# Altium integrated library Analog Devices Operational Amplifiers.IntLib: 2102 symbols (part 58 of 70)
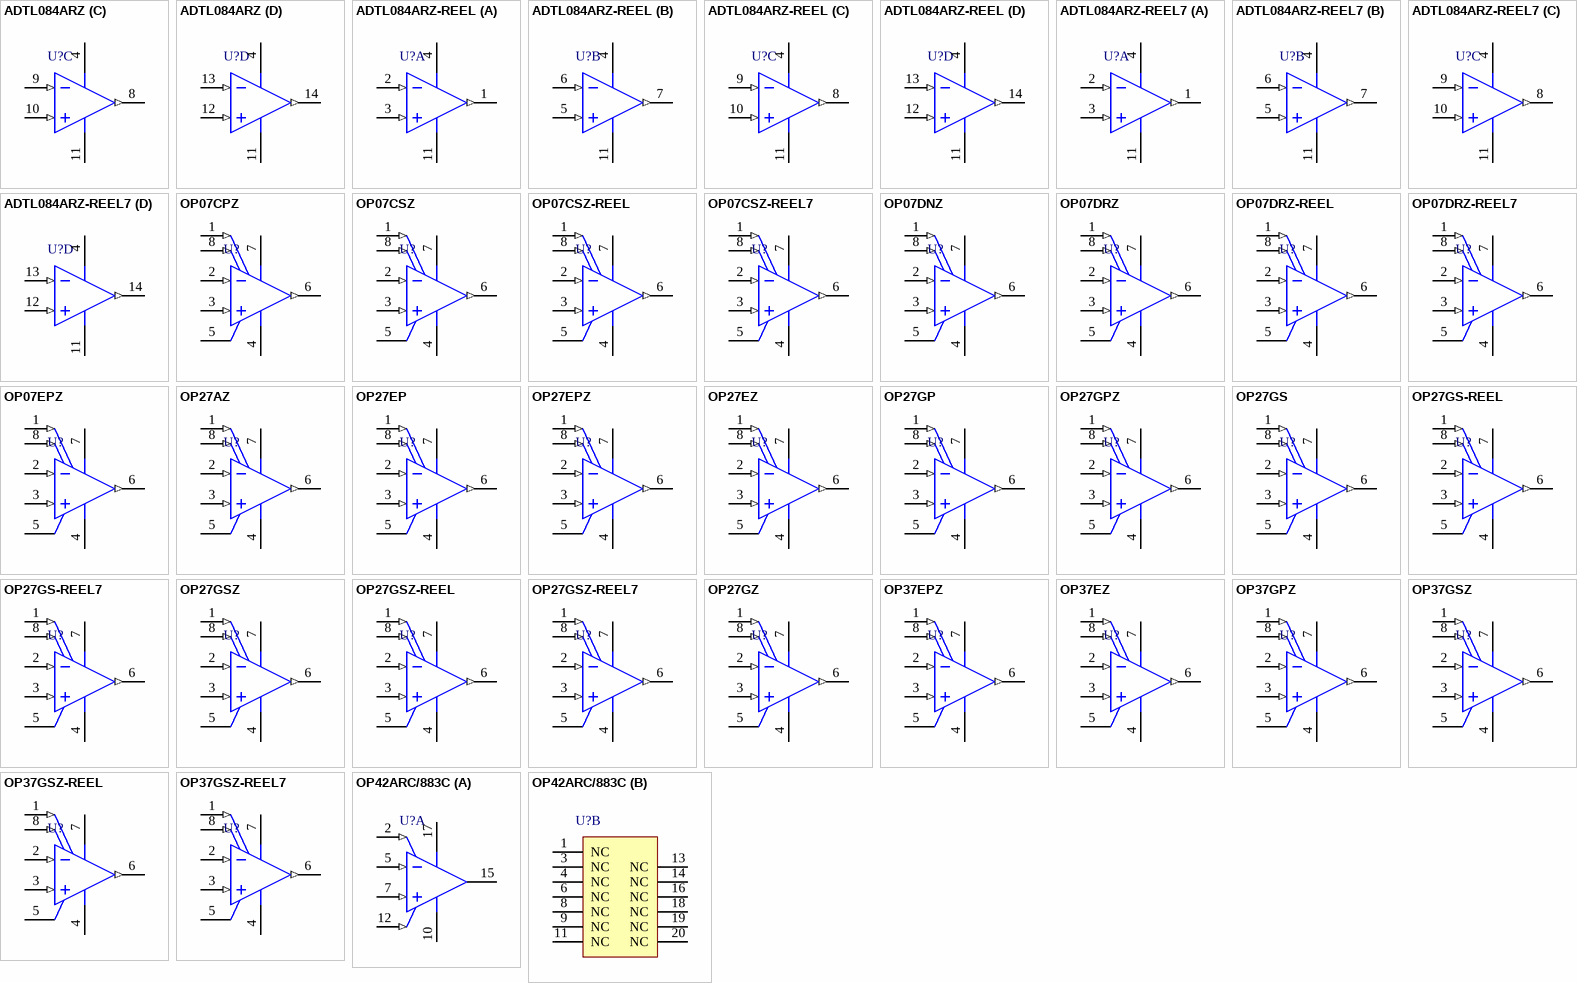
[diagram p171: symbols ADTL084ARZ to OP42ARC/883C]

## OP27EZ
designator U?
Single Channel Low Noise Operational Amplifier, 8 MHz BW, 2.8 V/us SR, Industrial, 8-pin DIP (Q-8), Tube; Generic Part Number: OP27; Manufacturer: Analog Devices; PartNumber: OP27EZ; Amplifiers Per Package: 1; Input Bias Current: 15nA; Input Offset Voltage: 30uV; Iq/Amp: 5.7mA; Small Signal Bandwidth: 8MHz; V Span Max: 44V; V Span Min: 8V; DatasheetVersion: Rev. F; PackageReference: Q-8; PackageDescription: 8-Pin Ceramic Dual In-Line Package, Row spacing 7.62 mm, Pitch 2.54 mm; Supplier 1: Digi-Key; Supplier Part Number 1: OP27EZ-ND; Supplier 2: Newark; Supplier Part Number 2: 05F8608; Packing: Tube; Slew Rate: 2.8V/us; Mounting Technology: Through Hole; ComponentLink1Description: Manufacturer URL; ComponentLink1URL: http://www.analog.com/en/index.html; ComponentLink2Description: Datasheet; ComponentLink2URL: http://www.analog.com/static/imported-files/data_sheets/OP27.pdf; ComponentLink3Description: Package Specification; ComponentLink3URL: http://www.analog.com/static/imported-files/packages/3925655241313314758Q_8.pdf
footprint ADI-Q-8 (DIP, 8-Leads, Body 10.29x6.73mm, Pitch 2.54mm)
pins: 1 VOS TRIM (in), 2 -IN (in), 3 +IN (in), 4 -V (power), 5 NC, 6 OUT (out), 7 +V (power), 8 VOS TRIM (in)

## OP27GP
designator U?
Single Channel Low Noise Operational Amplifier, 8 MHz BW, 2.8 V/us SR, Industrial, 8-pin DIP (N-8), Tube; Generic Part Number: OP27; Manufacturer: Analog Devices; PartNumber: OP27GP; Amplifiers Per Package: 1; Input Bias Current: 15nA; Input Offset Voltage: 30uV; Iq/Amp: 5.7mA; Small Signal Bandwidth: 8MHz; V Span Max: 44V; V Span Min: 8V; DatasheetVersion: Rev. F; PackageVersion: 070606-A; PackageReference: N-8; PackageDescription: 8-Pin Plastic Dual In-Line Package, Row spacing 7.62 mm, Pitch 2.54 mm; Supplier 1: Digi-Key; Supplier Part Number 1: OP27GP-ND; Packing: Tube; Slew Rate: 2.8V/us; Mounting Technology: Through Hole; Code_JEDEC: MS-001; ComponentLink1Description: Manufacturer URL; ComponentLink1URL: http://www.analog.com/en/index.html; ComponentLink2Description: Datasheet; ComponentLink2URL: http://www.analog.com/static/imported-files/data_sheets/OP27.pdf; ComponentLink3Description: Package Specification; ComponentLink3URL: http:/www.analog.com/static/imported-files/packages/PKG_PDF/PDIP(N)/N_8.pdf
footprint ADI-N-8 (DIP, 8-Leads, Body 9.59x6.6mm, Pitch 2.54mm)
pins: 1 VOS TRIM (in), 2 -IN (in), 3 +IN (in), 4 V- (power), 5 NC, 6 OUT (out), 7 V+ (power), 8 VOS TRIM (in)

## OP27GPZ
designator U?
Single Channel Low Noise Operational Amplifier, 8 MHz BW, 2.8 V/us SR, Industrial, 8-pin DIP (N-8), Tube; Generic Part Number: OP27; Manufacturer: Analog Devices; PartNumber: OP27GPZ; Amplifiers Per Package: 1; Input Bias Current: 15nA; Input Offset Voltage: 30uV; Iq/Amp: 5.7mA; Small Signal Bandwidth: 8MHz; V Span Max: 44V; V Span Min: 8V; DatasheetVersion: Rev. F; PackageVersion: 070606-A; PackageReference: N-8; PackageDescription: 8-Pin Plastic Dual In-Line Package, Row spacing 7.62 mm, Pitch 2.54 mm; Supplier 1: Digi-Key; Supplier Part Number 1: OP27GPZ-ND; Supplier 2: Farnell; Supplier Part Number 2: 1523887; Supplier 3: Farnell; Supplier Part Number 3: 9604626; Supplier 4: Newark; Supplier Part Number 4: 59K8828; Packing: Tube; Slew Rate: 2.8V/us; Mounting Technology: Through Hole; Code_JEDEC: MS-001; ComponentLink1Description: Manufacturer URL; ComponentLink1URL: http://www.analog.com/en/index.html; ComponentLink2Description: Datasheet; ComponentLink2URL: http://www.analog.com/static/imported-files/data_sheets/OP27.pdf; ComponentLink3Description: Package Specification; ComponentLink3URL: http:/www.analog.com/static/imported-files/packages/PKG_PDF/PDIP(N)/N_8.pdf
footprint ADI-N-8 (DIP, 8-Leads, Body 9.59x6.6mm, Pitch 2.54mm)
pins: 1 VOS TRIM (in), 2 -IN (in), 3 +IN (in), 4 V- (power), 5 NC, 6 OUT (out), 7 V+ (power), 8 VOS TRIM (in)

## OP27GS
designator U?
Single Channel Low Noise Operational Amplifier, 8 MHz BW, 2.8 V/us SR, Industrial, 8-pin SOIC (R-8), Tube; Generic Part Number: OP27; Manufacturer: Analog Devices; PartNumber: OP27GS; Amplifiers Per Package: 1; Input Bias Current: 15nA; Input Offset Voltage: 30uV; Iq/Amp: 5.7mA; Small Signal Bandwidth: 8MHz; V Span Max: 44V; V Span Min: 8V; DatasheetVersion: Rev. F; PackageVersion: 060506-A; PackageReference: R-8; PackageDescription: 8-Pin Standard Small Outline Package, Body 3.9 x 4.9 mm, Pitch 1.27 mm; Supplier 1: Digi-Key; Supplier Part Number 1: OP27GS-ND; Packing: Tube; Slew Rate: 2.8V/us; Mounting Technology: Surface Mount; Code_JEDEC: MS-012-AA; ComponentLink1Description: Manufacturer URL; ComponentLink1URL: http://www.analog.com/en/index.html; ComponentLink2Description: Datasheet; ComponentLink2URL: http://www.analog.com/static/imported-files/data_sheets/OP27.pdf; ComponentLink3Description: Package Specification; ComponentLink3URL: http://www.analog.com/static/imported-files/packages/PKG_PDF/SOIC_Narrow%20(R)/R_8.pdf
footprint ADI-R-8_N (SOIC, 8-Leads, Body 4.9x3.9mm, Pitch 1.27mm, IPC Medium Density)
footprint ADI-R-8_L (SOIC, 8-Leads, Body 4.9x3.9mm, Pitch 1.27mm, IPC High Density)
footprint ADI-R-8_M (SOIC, 8-Leads, Body 4.9x3.9mm, Pitch 1.27mm, IPC Low Density)
pins: 1 VOS TRIM (in), 2 -IN (in), 3 +IN (in), 4 V- (power), 5 NC, 6 OUT (out), 7 V+ (power), 8 VOS TRIM (in)

## OP27GS-REEL
designator U?
Single Channel Low Noise Operational Amplifier, 8 MHz BW, 2.8 V/us SR, Industrial, 8-pin SOIC (R-8), Reel; Generic Part Number: OP27; Manufacturer: Analog Devices; PartNumber: OP27GS-REEL; Amplifiers Per Package: 1; Input Bias Current: 15nA; Input Offset Voltage: 30uV; Iq/Amp: 5.7mA; Small Signal Bandwidth: 8MHz; V Span Max: 44V; V Span Min: 8V; DatasheetVersion: Rev. F; PackageVersion: 060506-A; PackageReference: R-8; PackageDescription: 8-Pin Standard Small Outline Package, Body 3.9 x 4.9 mm, Pitch 1.27 mm; Supplier 1: Digi-Key; Supplier Part Number 1: OP27GS-REEL-ND; Supplier 2: Newark; Supplier Part Number 2: 09B8393; Packing: Reel; Slew Rate: 2.8V/us; Mounting Technology: Surface Mount; Code_JEDEC: MS-012-AA; ComponentLink1Description: Manufacturer URL; ComponentLink1URL: http://www.analog.com/en/index.html; ComponentLink2Description: Datasheet; ComponentLink2URL: http://www.analog.com/static/imported-files/data_sheets/OP27.pdf; ComponentLink3Description: Package Specification; ComponentLink3URL: http://www.analog.com/static/imported-files/packages/PKG_PDF/SOIC_Narrow%20(R)/R_8.pdf
footprint ADI-R-8_N (SOIC, 8-Leads, Body 4.9x3.9mm, Pitch 1.27mm, IPC Medium Density)
footprint ADI-R-8_L (SOIC, 8-Leads, Body 4.9x3.9mm, Pitch 1.27mm, IPC High Density)
footprint ADI-R-8_M (SOIC, 8-Leads, Body 4.9x3.9mm, Pitch 1.27mm, IPC Low Density)
pins: 1 VOS TRIM (in), 2 -IN (in), 3 +IN (in), 4 V- (power), 5 NC, 6 OUT (out), 7 V+ (power), 8 VOS TRIM (in)

## OP27GS-REEL7
designator U?
Single Channel Low Noise Operational Amplifier, 8 MHz BW, 2.8 V/us SR, Industrial, 8-pin SOIC (R-8), Reel; Generic Part Number: OP27; Manufacturer: Analog Devices; PartNumber: OP27GS-REEL7; Amplifiers Per Package: 1; Input Bias Current: 15nA; Input Offset Voltage: 30uV; Iq/Amp: 5.7mA; Small Signal Bandwidth: 8MHz; V Span Max: 44V; V Span Min: 8V; DatasheetVersion: Rev. F; PackageVersion: 060506-A; PackageReference: R-8; PackageDescription: 8-Pin Standard Small Outline Package, Body 3.9 x 4.9 mm, Pitch 1.27 mm; Supplier 1: Digi-Key; Supplier Part Number 1: OP27GS-REEL7TR-ND; Supplier 2: Newark; Supplier Part Number 2: 09B8394; Packing: Reel; Slew Rate: 2.8V/us; Mounting Technology: Surface Mount; Code_JEDEC: MS-012-AA; ComponentLink1Description: Manufacturer URL; ComponentLink1URL: http://www.analog.com/en/index.html; ComponentLink2Description: Datasheet; ComponentLink2URL: http://www.analog.com/static/imported-files/data_sheets/OP27.pdf; ComponentLink3Description: Package Specification; ComponentLink3URL: http://www.analog.com/static/imported-files/packages/PKG_PDF/SOIC_Narrow%20(R)/R_8.pdf
footprint ADI-R-8_N (SOIC, 8-Leads, Body 4.9x3.9mm, Pitch 1.27mm, IPC Medium Density)
footprint ADI-R-8_L (SOIC, 8-Leads, Body 4.9x3.9mm, Pitch 1.27mm, IPC High Density)
footprint ADI-R-8_M (SOIC, 8-Leads, Body 4.9x3.9mm, Pitch 1.27mm, IPC Low Density)
pins: 1 VOS TRIM (in), 2 -IN (in), 3 +IN (in), 4 V- (power), 5 NC, 6 OUT (out), 7 V+ (power), 8 VOS TRIM (in)

## OP27GSZ
designator U?
Single Channel Low Noise Operational Amplifier, 8 MHz BW, 2.8 V/us SR, Industrial, 8-pin SOIC (R-8), Tube; Generic Part Number: OP27; Manufacturer: Analog Devices; PartNumber: OP27GSZ; Amplifiers Per Package: 1; Input Bias Current: 15nA; Input Offset Voltage: 30uV; Iq/Amp: 5.7mA; Small Signal Bandwidth: 8MHz; V Span Max: 44V; V Span Min: 8V; DatasheetVersion: Rev. F; PackageVersion: 060506-A; PackageReference: R-8; PackageDescription: 8-Pin Standard Small Outline Package, Body 3.9 x 4.9 mm, Pitch 1.27 mm; Supplier 1: Digi-Key; Supplier Part Number 1: OP27GSZ-ND; Supplier 2: Farnell; Supplier Part Number 2: 9426124; Supplier 3: Newark; Supplier Part Number 3: 59K8829; Packing: Tube; Slew Rate: 2.8V/us; Mounting Technology: Surface Mount; Code_JEDEC: MS-012-AA; ComponentLink1Description: Manufacturer URL; ComponentLink1URL: http://www.analog.com/en/index.html; ComponentLink2Description: Datasheet; ComponentLink2URL: http://www.analog.com/static/imported-files/data_sheets/OP27.pdf; ComponentLink3Description: Package Specification; ComponentLink3URL: http://www.analog.com/static/imported-files/packages/PKG_PDF/SOIC_Narrow%20(R)/R_8.pdf
footprint ADI-R-8_N (SOIC, 8-Leads, Body 4.9x3.9mm, Pitch 1.27mm, IPC Medium Density)
footprint ADI-R-8_L (SOIC, 8-Leads, Body 4.9x3.9mm, Pitch 1.27mm, IPC High Density)
footprint ADI-R-8_M (SOIC, 8-Leads, Body 4.9x3.9mm, Pitch 1.27mm, IPC Low Density)
pins: 1 VOS TRIM (in), 2 -IN (in), 3 +IN (in), 4 V- (power), 5 NC, 6 OUT (out), 7 V+ (power), 8 VOS TRIM (in)

## OP27GSZ-REEL
designator U?
Single Channel Low Noise Operational Amplifier, 8 MHz BW, 2.8 V/us SR, Industrial, 8-pin SOIC (R-8), Reel; Generic Part Number: OP27; Manufacturer: Analog Devices; PartNumber: OP27GSZ-REEL; Amplifiers Per Package: 1; Input Bias Current: 15nA; Input Offset Voltage: 30uV; Iq/Amp: 5.7mA; Small Signal Bandwidth: 8MHz; V Span Max: 44V; V Span Min: 8V; DatasheetVersion: Rev. F; PackageVersion: 060506-A; PackageReference: R-8; PackageDescription: 8-Pin Standard Small Outline Package, Body 3.9 x 4.9 mm, Pitch 1.27 mm; Supplier 1: Digi-Key; Supplier Part Number 1: OP27GSZ-REEL-ND; Supplier 2: Newark; Supplier Part Number 2: 59K8830; Packing: Reel; Slew Rate: 2.8V/us; Mounting Technology: Surface Mount; Code_JEDEC: MS-012-AA; ComponentLink1Description: Manufacturer URL; ComponentLink1URL: http://www.analog.com/en/index.html; ComponentLink2Description: Datasheet; ComponentLink2URL: http://www.analog.com/static/imported-files/data_sheets/OP27.pdf; ComponentLink3Description: Package Specification; ComponentLink3URL: http://www.analog.com/static/imported-files/packages/PKG_PDF/SOIC_Narrow%20(R)/R_8.pdf
footprint ADI-R-8_N (SOIC, 8-Leads, Body 4.9x3.9mm, Pitch 1.27mm, IPC Medium Density)
footprint ADI-R-8_L (SOIC, 8-Leads, Body 4.9x3.9mm, Pitch 1.27mm, IPC High Density)
footprint ADI-R-8_M (SOIC, 8-Leads, Body 4.9x3.9mm, Pitch 1.27mm, IPC Low Density)
pins: 1 VOS TRIM (in), 2 -IN (in), 3 +IN (in), 4 V- (power), 5 NC, 6 OUT (out), 7 V+ (power), 8 VOS TRIM (in)

## OP27GSZ-REEL7
designator U?
Single Channel Low Noise Operational Amplifier, 8 MHz BW, 2.8 V/us SR, Industrial, 8-pin SOIC (R-8), Reel; Generic Part Number: OP27; Manufacturer: Analog Devices; PartNumber: OP27GSZ-REEL7; Amplifiers Per Package: 1; Input Bias Current: 15nA; Input Offset Voltage: 30uV; Iq/Amp: 5.7mA; Small Signal Bandwidth: 8MHz; V Span Max: 44V; V Span Min: 8V; DatasheetVersion: Rev. F; PackageVersion: 060506-A; PackageReference: R-8; PackageDescription: 8-Pin Standard Small Outline Package, Body 3.9 x 4.9 mm, Pitch 1.27 mm; Supplier 1: Digi-Key; Supplier Part Number 1: OP27GSZ-REEL7TR-ND; Supplier 2: Digi-Key; Supplier Part Number 2: OP27GSZ-REEL7CT-ND; Supplier 3: Digi-Key; Supplier Part Number 3: OP27GSZ-REEL7DKR-ND; Supplier 4: Newark; Supplier Part Number 4: 59K8831; Packing: Reel; Slew Rate: 2.8V/us; Mounting Technology: Surface Mount; Code_JEDEC: MS-012-AA; ComponentLink1Description: Manufacturer URL; ComponentLink1URL: http://www.analog.com/en/index.html; ComponentLink2Description: Datasheet; ComponentLink2URL: http://www.analog.com/static/imported-files/data_sheets/OP27.pdf; ComponentLink3Description: Package Specification; ComponentLink3URL: http://www.analog.com/static/imported-files/packages/PKG_PDF/SOIC_Narrow%20(R)/R_8.pdf
footprint ADI-R-8_N (SOIC, 8-Leads, Body 4.9x3.9mm, Pitch 1.27mm, IPC Medium Density)
footprint ADI-R-8_L (SOIC, 8-Leads, Body 4.9x3.9mm, Pitch 1.27mm, IPC High Density)
footprint ADI-R-8_M (SOIC, 8-Leads, Body 4.9x3.9mm, Pitch 1.27mm, IPC Low Density)
pins: 1 VOS TRIM (in), 2 -IN (in), 3 +IN (in), 4 V- (power), 5 NC, 6 OUT (out), 7 V+ (power), 8 VOS TRIM (in)

## OP27GZ
designator U?
Single Channel Low Noise Operational Amplifier, 8 MHz BW, 2.8 V/us SR, Industrial, 8-pin DIP (Q-8), Tube; Generic Part Number: OP27; Manufacturer: Analog Devices; PartNumber: OP27GZ; Amplifiers Per Package: 1; Input Bias Current: 15nA; Input Offset Voltage: 30uV; Iq/Amp: 5.7mA; Small Signal Bandwidth: 8MHz; V Span Max: 44V; V Span Min: 8V; DatasheetVersion: Rev. F; PackageReference: Q-8; PackageDescription: 8-Pin Ceramic Dual In-Line Package, Row spacing 7.62 mm, Pitch 2.54 mm; Supplier 1: Digi-Key; Supplier Part Number 1: OP27GZ-ND; Supplier 2: Newark; Supplier Part Number 2: 05F8616; Packing: Tube; Slew Rate: 2.8V/us; Mounting Technology: Through Hole; ComponentLink1Description: Manufacturer URL; ComponentLink1URL: http://www.analog.com/en/index.html; ComponentLink2Description: Datasheet; ComponentLink2URL: http://www.analog.com/static/imported-files/data_sheets/OP27.pdf; ComponentLink3Description: Package Specification; ComponentLink3URL: http://www.analog.com/static/imported-files/packages/3925655241313314758Q_8.pdf
footprint ADI-Q-8 (DIP, 8-Leads, Body 10.29x6.73mm, Pitch 2.54mm)
pins: 1 VOS TRIM (in), 2 -IN (in), 3 +IN (in), 4 -V (power), 5 NC, 6 OUT (out), 7 +V (power), 8 VOS TRIM (in)

## OP37EPZ
designator U?
Single Channel Low Noise Operational Amplifier, 63 MHz BW, 17 V/us SR, Industrial, 8-pin DIP (N-8), Tube; Generic Part Number: OP37; Manufacturer: Analog Devices; PartNumber: OP37EPZ; Amplifiers Per Package: 1; Input Bias Current: 10nA; Input Offset Voltage: 10uV; Iq/Amp: 5.67mA; Slew Rate: 17V/us; Small Signal Bandwidth: 12MHz; V Span Max: 44V; V Span Min: 8V; DatasheetVersion: Rev. B; PackageVersion: 070606-A; PackageReference: N-8; PackageDescription: 8-Pin Plastic Dual In-Line Package, Row spacing 7.62 mm, Pitch 2.54 mm; Supplier 1: Digi-Key; Supplier Part Number 1: OP37EPZ-ND; Supplier 2: Farnell; Supplier Part Number 2: 1438688; Supplier 3: Newark; Supplier Part Number 3: 59K8884; Packing: Tube; Mounting Technology: Through Hole; Code_JEDEC: MS-001; ComponentLink1Description: Manufacturer URL; ComponentLink1URL: http://www.analog.com/en/index.html; ComponentLink2Description: Datasheet; ComponentLink2URL: http://www.analog.com/static/imported-files/data_sheets/OP37.pdf; ComponentLink3Description: Package Specification; ComponentLink3URL: http:/www.analog.com/static/imported-files/packages/PKG_PDF/PDIP(N)/N_8.pdf
footprint ADI-N-8 (DIP, 8-Leads, Body 9.59x6.6mm, Pitch 2.54mm)
pins: 1 VOS TRIM (in), 2 -IN (in), 3 +IN (in), 4 V- (power), 5 NC, 6 OUT (out), 7 V+ (power), 8 VOS TRIM (in)

## OP37EZ
designator U?
Single Channel Low Noise Operational Amplifier, 63 MHz BW, 17 V/us SR, Industrial, 8-pin DIP (Q-8), Tube; Generic Part Number: OP37; Manufacturer: Analog Devices; PartNumber: OP37EZ; Amplifiers Per Package: 1; Input Bias Current: 10nA; Input Offset Voltage: 10uV; Iq/Amp: 5.67mA; Slew Rate: 17V/us; Small Signal Bandwidth: 12MHz; V Span Max: 44V; V Span Min: 8V; DatasheetVersion: Rev. B; PackageReference: Q-8; PackageDescription: 8-Pin Ceramic Dual In-Line Package, Row spacing 7.62 mm, Pitch 2.54 mm; Supplier 1: Digi-Key; Supplier Part Number 1: OP37EZ-ND; Supplier 2: Newark; Supplier Part Number 2: 05F8657; Packing: Tube; Mounting Technology: Through Hole; ComponentLink1Description: Manufacturer URL; ComponentLink1URL: http://www.analog.com/en/index.html; ComponentLink2Description: Datasheet; ComponentLink2URL: http://www.analog.com/static/imported-files/data_sheets/OP37.pdf; ComponentLink3Description: Package Specification; ComponentLink3URL: http://www.analog.com/static/imported-files/packages/3925655241313314758Q_8.pdf
footprint ADI-Q-8 (DIP, 8-Leads, Body 10.29x6.73mm, Pitch 2.54mm)
pins: 1 VOS TRIM (in), 2 -IN (in), 3 +IN (in), 4 V- (power), 5 NC, 6 OUT (out), 7 V+ (power), 8 VOS TRIM (in)

## OP37GPZ
designator U?
Single Channel Low Noise Operational Amplifier, 63 MHz BW, 17 V/us SR, Industrial, 8-pin DIP (N-8), Tube; Generic Part Number: OP37; Manufacturer: Analog Devices; PartNumber: OP37GPZ; Amplifiers Per Package: 1; Input Bias Current: 15nA; Input Offset Voltage: 30uV; Iq/Amp: 5.67mA; Slew Rate: 17V/us; Small Signal Bandwidth: 63MHz; V Span Max: 44V; V Span Min: 8V; DatasheetVersion: Rev. B; PackageVersion: 070606-A; PackageReference: N-8; PackageDescription: 8-Pin Plastic Dual In-Line Package, Row spacing 7.62 mm, Pitch 2.54 mm; Supplier 1: Digi-Key; Supplier Part Number 1: OP37GPZ-ND; Supplier 2: Farnell; Supplier Part Number 2: 9604642; Supplier 3: Newark; Supplier Part Number 3: 59K8885; Packing: Tube; Mounting Technology: Through Hole; Code_JEDEC: MS-001; ComponentLink1Description: Manufacturer URL; ComponentLink1URL: http://www.analog.com/en/index.html; ComponentLink2Description: Datasheet; ComponentLink2URL: http://www.analog.com/static/imported-files/data_sheets/OP37.pdf; ComponentLink3Description: Package Specification; ComponentLink3URL: http:/www.analog.com/static/imported-files/packages/PKG_PDF/PDIP(N)/N_8.pdf
footprint ADI-N-8 (DIP, 8-Leads, Body 9.59x6.6mm, Pitch 2.54mm)
pins: 1 VOS TRIM (in), 2 -IN (in), 3 +IN (in), 4 V- (power), 5 NC, 6 OUT (out), 7 V+ (power), 8 VOS TRIM (in)

## OP37GSZ
designator U?
Single Channel Low Noise Operational Amplifier, 63 MHz BW, 17 V/us SR, Industrial, 8-pin SOIC (R-8), Tube; Generic Part Number: OP37; Manufacturer: Analog Devices; PartNumber: OP37GSZ; Amplifiers Per Package: 1; Input Bias Current: 15nA; Input Offset Voltage: 30uV; Iq/Amp: 5.67mA; Slew Rate: 17V/us; Small Signal Bandwidth: 63MHz; V Span Max: 44V; V Span Min: 8V; DatasheetVersion: Rev. B; PackageVersion: 060506-A; PackageReference: R-8; PackageDescription: 8-Pin Standard Small Outline Package, Body 3.9 x 4.9 mm, Pitch 1.27 mm; Supplier 1: Digi-Key; Supplier Part Number 1: OP37GSZ-ND; Supplier 2: Farnell; Supplier Part Number 2: 9604650; Supplier 3: Newark; Supplier Part Number 3: 19M1031; Packing: Tube; Mounting Technology: Surface Mount; Code_JEDEC: MS-012-AA; ComponentLink1Description: Manufacturer URL; ComponentLink1URL: http://www.analog.com/en/index.html; ComponentLink2Description: Datasheet; ComponentLink2URL: http://www.analog.com/static/imported-files/data_sheets/OP37.pdf; ComponentLink3Description: Package Specification; ComponentLink3URL: http://www.analog.com/static/imported-files/packages/PKG_PDF/SOIC_Narrow%20(R)/R_8.pdf
footprint ADI-R-8_N (SOIC, 8-Leads, Body 4.9x3.9mm, Pitch 1.27mm, IPC Medium Density)
footprint ADI-R-8_L (SOIC, 8-Leads, Body 4.9x3.9mm, Pitch 1.27mm, IPC High Density)
footprint ADI-R-8_M (SOIC, 8-Leads, Body 4.9x3.9mm, Pitch 1.27mm, IPC Low Density)
pins: 1 VOS TRIM (in), 2 -IN (in), 3 +IN (in), 4 V- (power), 5 NC, 6 OUT (out), 7 V+ (power), 8 VOS TRIM (in)

## OP37GSZ-REEL
designator U?
Single Channel Low Noise Operational Amplifier, 63 MHz BW, 17 V/us SR, Industrial, 8-pin SOIC (R-8), Reel; Generic Part Number: OP37; Manufacturer: Analog Devices; PartNumber: OP37GSZ-REEL; Amplifiers Per Package: 1; Input Bias Current: 15nA; Input Offset Voltage: 30uV; Iq/Amp: 5.67mA; Slew Rate: 17V/us; Small Signal Bandwidth: 63MHz; V Span Max: 44V; V Span Min: 8V; DatasheetVersion: Rev. B; PackageVersion: 060506-A; PackageReference: R-8; PackageDescription: 8-Pin Standard Small Outline Package, Body 3.9 x 4.9 mm, Pitch 1.27 mm; Supplier 1: Digi-Key; Supplier Part Number 1: OP37GSZ-REEL-ND; Supplier 2: Newark; Supplier Part Number 2: 59K8887; Packing: Reel; Mounting Technology: Surface Mount; Code_JEDEC: MS-012-AA; ComponentLink1Description: Manufacturer URL; ComponentLink1URL: http://www.analog.com/en/index.html; ComponentLink2Description: Datasheet; ComponentLink2URL: http://www.analog.com/static/imported-files/data_sheets/OP37.pdf; ComponentLink3Description: Package Specification; ComponentLink3URL: http://www.analog.com/static/imported-files/packages/PKG_PDF/SOIC_Narrow%20(R)/R_8.pdf
footprint ADI-R-8_N (SOIC, 8-Leads, Body 4.9x3.9mm, Pitch 1.27mm, IPC Medium Density)
footprint ADI-R-8_L (SOIC, 8-Leads, Body 4.9x3.9mm, Pitch 1.27mm, IPC High Density)
footprint ADI-R-8_M (SOIC, 8-Leads, Body 4.9x3.9mm, Pitch 1.27mm, IPC Low Density)
pins: 1 VOS TRIM (in), 2 -IN (in), 3 +IN (in), 4 V- (power), 5 NC, 6 OUT (out), 7 V+ (power), 8 VOS TRIM (in)

## OP37GSZ-REEL7
designator U?
Single Channel Low Noise Operational Amplifier, 63 MHz BW, 17 V/us SR, Industrial, 8-pin SOIC (R-8), Reel; Generic Part Number: OP37; Manufacturer: Analog Devices; PartNumber: OP37GSZ-REEL7; Amplifiers Per Package: 1; Input Bias Current: 15nA; Input Offset Voltage: 30uV; Iq/Amp: 5.67mA; Slew Rate: 17V/us; Small Signal Bandwidth: 63MHz; V Span Max: 44V; V Span Min: 8V; DatasheetVersion: Rev. B; PackageVersion: 060506-A; PackageReference: R-8; PackageDescription: 8-Pin Standard Small Outline Package, Body 3.9 x 4.9 mm, Pitch 1.27 mm; Supplier 1: Digi-Key; Supplier Part Number 1: OP37GSZ-REEL7TR-ND; Supplier 2: Digi-Key; Supplier Part Number 2: OP37GSZ-REEL7CT-ND; Supplier 3: Digi-Key; Supplier Part Number 3: OP37GSZ-REEL7DKR-ND; Packing: Reel; Mounting Technology: Surface Mount; Code_JEDEC: MS-012-AA; ComponentLink1Description: Manufacturer URL; ComponentLink1URL: http://www.analog.com/en/index.html; ComponentLink2Description: Datasheet; ComponentLink2URL: http://www.analog.com/static/imported-files/data_sheets/OP37.pdf; ComponentLink3Description: Package Specification; ComponentLink3URL: http://www.analog.com/static/imported-files/packages/PKG_PDF/SOIC_Narrow%20(R)/R_8.pdf
footprint ADI-R-8_N (SOIC, 8-Leads, Body 4.9x3.9mm, Pitch 1.27mm, IPC Medium Density)
footprint ADI-R-8_L (SOIC, 8-Leads, Body 4.9x3.9mm, Pitch 1.27mm, IPC High Density)
footprint ADI-R-8_M (SOIC, 8-Leads, Body 4.9x3.9mm, Pitch 1.27mm, IPC Low Density)
pins: 1 VOS TRIM (in), 2 -IN (in), 3 +IN (in), 4 V- (power), 5 NC, 6 OUT (out), 7 V+ (power), 8 VOS TRIM (in)

## OP42ARC/883C
designator U?
Single Channel Fast Slew Rate Operational Amplifier, 10 MHz BW, 50 V/us SR, Industrial, 20-pin LCC (E-20-1), Tube; Generic Part Number: OP42; Manufacturer: Analog Devices; PartNumber: OP42ARC/883C; Amplifiers Per Package: 1; Input Bias Current: 200pA; Input Offset Voltage: 300uV; Iq/Amp: 6.5mA; Slew Rate: 50V/us; Small Signal Bandwidth: 10MHz; V Span Max: 40V; V Span Min: 16V; DatasheetVersion: Rev. A; PackageVersion: 022106-A; PackageReference: E-20-1; PackageDescription: 20-Terminal Ceramic Leadless Chip Carrier, Body 8.89 x 8.89 mm, Pitch 1.27 mm; Supplier 1: Digi-Key; Supplier Part Number 1: OP42ARC/883C-ND; Packing: Tube; Mounting Technology: Surface Mount; ComponentLink1Description: Manufacturer URL; ComponentLink1URL: http://www.analog.com/en/index.html; ComponentLink2Description: Datasheet; ComponentLink2URL: http://www.analog.com/static/imported-files/data_sheets/OP42.pdf; ComponentLink3Description: Package Specification; ComponentLink3URL: http://www.analog.com/static/imported-files/packages/PKG_PDF/LCC(E)/E_20_1.pdf
footprint ADI-E-20-1_N (LCC, 20-Leads, Body 8.9x8.9mm, Pitch 1.27mm, IPC Medium Density)
footprint ADI-E-20-1_L (LCC, 20-Leads, Body 8.9x8.9mm, Pitch 1.27mm, IPC High Density)
footprint ADI-E-20-1_M (LCC, 20-Leads, Body 8.9x8.9mm, Pitch 1.27mm, IPC Low Density)
part A pins: 2 NULL (in), 5 -IN (in), 7 +IN (in), 10 -V (power), 12 NULL (in), 15 OUT (hiz), 17 +V (power)
part B pins: 1 NC, 3 NC, 4 NC, 6 NC, 8 NC, 9 NC, 11 NC, 13 NC, 14 NC, 16 NC, 18 NC, 19 NC, 20 NC

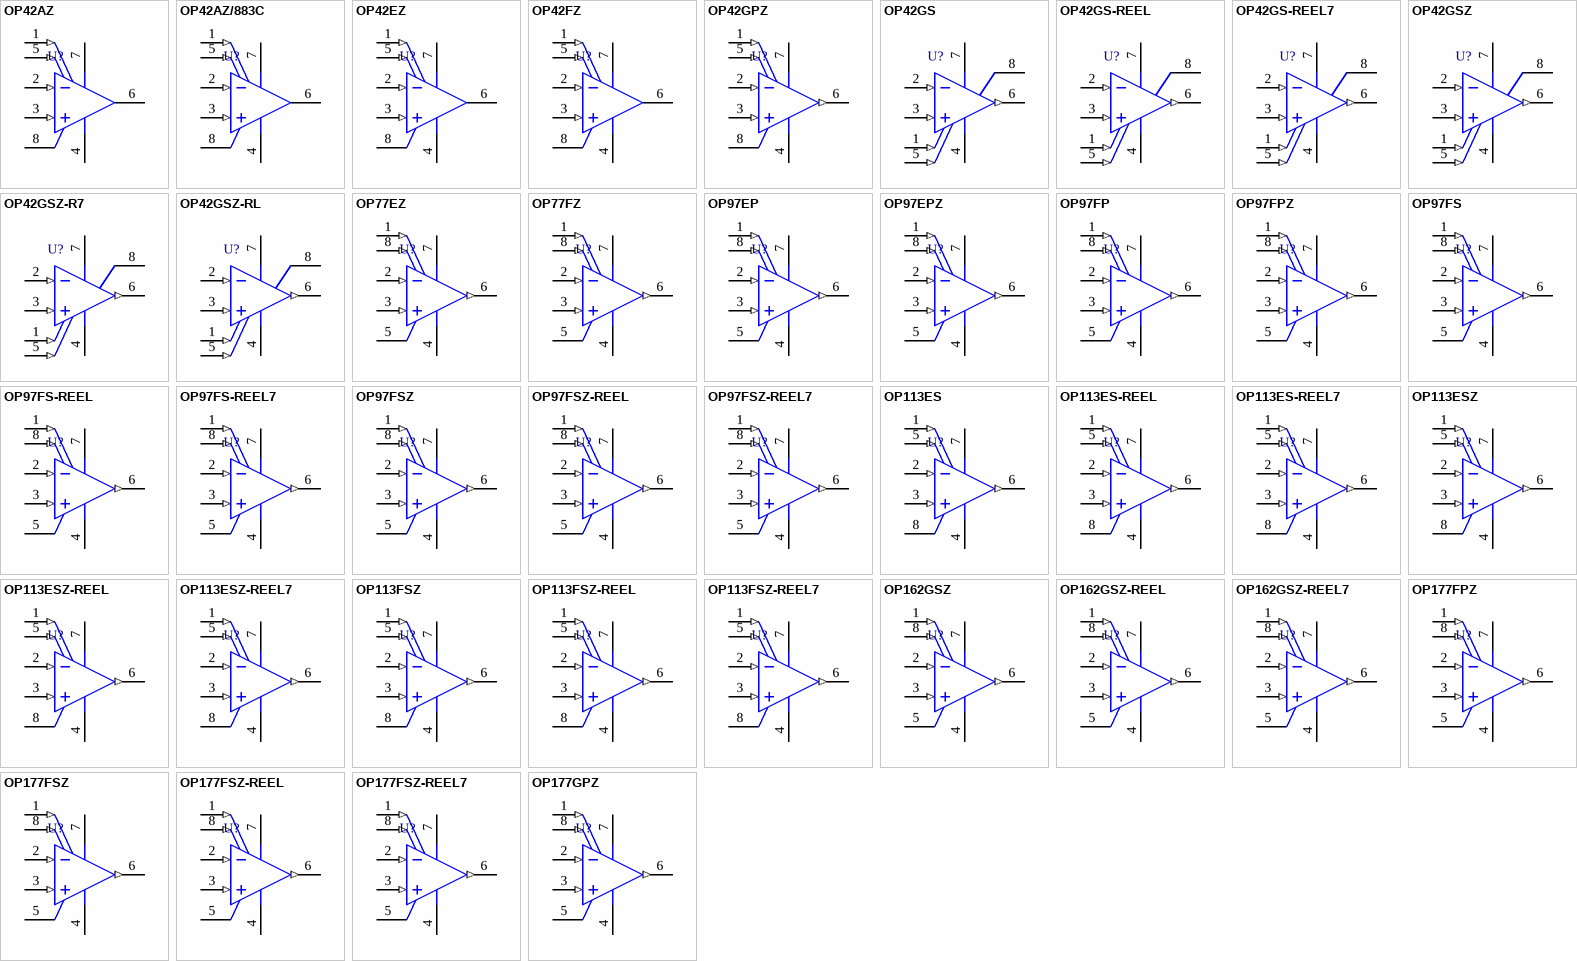
[diagram p91: symbols OP42AZ to OP177GPZ]

## OP42AZ
designator U?
Single Channel Fast Slew Rate Operational Amplifier, 10 MHz BW, 52 V/us SR, Industrial, 8-pin DIP (Q-8), Tube; Generic Part Number: OP42; Manufacturer: Analog Devices; PartNumber: OP42AZ; Amplifiers Per Package: 1; Input Bias Current: 80pA; Input Offset Voltage: 0.3mV; Iq/Amp: 6.5mA; Slew Rate: 52V/us; Small Signal Bandwidth: 10MHz; V Span Max: 40V; V Span Min: 16V; DatasheetVersion: Rev. A; PackageReference: Q-8; PackageDescription: 8-Pin Ceramic Dual In-Line Package, Row spacing 7.62 mm, Pitch 2.54 mm; Supplier 1: Digi-Key; Supplier Part Number 1: OP42AZ-ND; Supplier 2: Newark; Supplier Part Number 2: 66F5756; Packing: Tube; Mounting Technology: Through Hole; ComponentLink1Description: Manufacturer URL; ComponentLink1URL: http://www.analog.com/en/index.html; ComponentLink2Description: Datasheet; ComponentLink2URL: http://www.analog.com/static/imported-files/data_sheets/OP42.pdf; ComponentLink3Description: Package Specification; ComponentLink3URL: http://www.analog.com/static/imported-files/packages/3925655241313314758Q_8.pdf
footprint ADI-Q-8 (DIP, 8-Leads, Body 10.29x6.73mm, Pitch 2.54mm)
pins: 1 NULL (in), 2 -IN (in), 3 +IN (in), 4 -V (power), 5 NULL (in), 6 OUT (hiz), 7 +V (power), 8 NC

## OP42AZ/883C
designator U?
Single Channel Fast Slew Rate Operational Amplifier, 10 MHz BW, 52 V/us SR, Industrial, 8-pin DIP (Q-8), Tube; Generic Part Number: OP42; Manufacturer: Analog Devices; PartNumber: OP42AZ/883C; Amplifiers Per Package: 1; Input Bias Current: 80pA; Input Offset Voltage: 0.3mV; Iq/Amp: 6.5mA; Slew Rate: 52V/us; Small Signal Bandwidth: 10MHz; V Span Max: 40V; V Span Min: 16V; DatasheetVersion: Rev. A; PackageReference: Q-8; PackageDescription: 8-Pin Ceramic Dual In-Line Package, Row spacing 7.62 mm, Pitch 2.54 mm; Supplier 1: Digi-Key; Supplier Part Number 1: OP42AZ/883C-ND; Packing: Tube; Mounting Technology: Through Hole; ComponentLink1Description: Manufacturer URL; ComponentLink1URL: http://www.analog.com/en/index.html; ComponentLink2Description: Datasheet; ComponentLink2URL: http://www.analog.com/static/imported-files/data_sheets/OP42.pdf; ComponentLink3Description: Package Specification; ComponentLink3URL: http://www.analog.com/static/imported-files/packages/3925655241313314758Q_8.pdf
footprint ADI-Q-8 (DIP, 8-Leads, Body 10.29x6.73mm, Pitch 2.54mm)
pins: 1 NULL (in), 2 -IN (in), 3 +IN (in), 4 -V (power), 5 NULL (in), 6 OUT (hiz), 7 +V (power), 8 NC

## OP42EZ
designator U?
Single Channel Fast Slew Rate Operational Amplifier, 10 MHz BW, 58 V/us SR, Industrial, 8-pin DIP (Q-8), Tube; Generic Part Number: OP42; Manufacturer: Analog Devices; PartNumber: OP42EZ; Amplifiers Per Package: 1; Input Bias Current: 80pA; Input Offset Voltage: 0.3mV; Iq/Amp: 6.5mA; Slew Rate: 58V/us; Small Signal Bandwidth: 10MHz; V Span Max: 40V; V Span Min: 16V; DatasheetVersion: Rev. A; PackageReference: Q-8; PackageDescription: 8-Pin Ceramic Dual In-Line Package, Row spacing 7.62 mm, Pitch 2.54 mm; Supplier 1: Digi-Key; Supplier Part Number 1: OP42EZ-ND; Supplier 2: Newark; Supplier Part Number 2: 05F8679; Packing: Tube; Mounting Technology: Through Hole; ComponentLink1Description: Manufacturer URL; ComponentLink1URL: http://www.analog.com/en/index.html; ComponentLink2Description: Datasheet; ComponentLink2URL: http://www.analog.com/static/imported-files/data_sheets/OP42.pdf; ComponentLink3Description: Package Specification; ComponentLink3URL: http://www.analog.com/static/imported-files/packages/3925655241313314758Q_8.pdf
footprint ADI-Q-8 (DIP, 8-Leads, Body 10.29x6.73mm, Pitch 2.54mm)
pins: 1 NULL (in), 2 -IN (in), 3 +IN (in), 4 -V (power), 5 NULL (in), 6 OUT (hiz), 7 +V (power), 8 NC

## OP42FZ
designator U?
Single Channel Fast Slew Rate Operational Amplifier, 10 MHz BW, 50 V/us SR, Industrial, 8-pin DIP (Q-8), Tube; Generic Part Number: OP42; Manufacturer: Analog Devices; PartNumber: OP42FZ; Amplifiers Per Package: 1; Input Bias Current: 130pA; Input Offset Voltage: 0.4mV; Iq/Amp: 6.5mA; Slew Rate: 50V/us; Small Signal Bandwidth: 10MHz; V Span Max: 40V; V Span Min: 16V; DatasheetVersion: Rev. A; PackageReference: Q-8; PackageDescription: 8-Pin Ceramic Dual In-Line Package, Row spacing 7.62 mm, Pitch 2.54 mm; Supplier 1: Digi-Key; Supplier Part Number 1: OP42FZ-ND; Supplier 2: Farnell; Supplier Part Number 2: 400543; Supplier 3: Newark; Supplier Part Number 3: 05F8681; Packing: Tube; Mounting Technology: Through Hole; ComponentLink1Description: Manufacturer URL; ComponentLink1URL: http://www.analog.com/en/index.html; ComponentLink2Description: Datasheet; ComponentLink2URL: http://www.analog.com/static/imported-files/data_sheets/OP42.pdf; ComponentLink3Description: Package Specification; ComponentLink3URL: http://www.analog.com/static/imported-files/packages/3925655241313314758Q_8.pdf
footprint ADI-Q-8 (DIP, 8-Leads, Body 10.29x6.73mm, Pitch 2.54mm)
pins: 1 NULL (in), 2 -IN (in), 3 +IN (in), 4 -V (power), 5 NULL (in), 6 OUT (hiz), 7 +V (power), 8 NC

## OP42GPZ
designator U?
Single Channel Fast Slew Rate Operational Amplifier, 10 MHz BW, 50 V/us SR, Industrial, 8-pin DIP (N-8), Tube; Generic Part Number: OP42; Manufacturer: Analog Devices; PartNumber: OP42GPZ; Amplifiers Per Package: 1; Input Bias Current: 130pA; Input Offset Voltage: 1.5mV; Iq/Amp: 6.5mA; Slew Rate: 50V/us; Small Signal Bandwidth: 10MHz; V Span Max: 40V; V Span Min: 16V; DatasheetVersion: Rev. A; PackageVersion: 070606-A; PackageReference: N-8; PackageDescription: 8-Pin Plastic Dual In-Line Package, Row spacing 7.62 mm, Pitch 2.54 mm; Supplier 1: Digi-Key; Supplier Part Number 1: OP42GPZ-ND; Supplier 2: Farnell; Supplier Part Number 2: 1361301; Supplier 3: Newark; Supplier Part Number 3: 59K8908; Packing: Tube; Mounting Technology: Through Hole; Code_JEDEC: MS-001; ComponentLink1Description: Manufacturer URL; ComponentLink1URL: http://www.analog.com/en/index.html; ComponentLink2Description: Datasheet; ComponentLink2URL: http://www.analog.com/static/imported-files/data_sheets/OP42.pdf; ComponentLink3Description: Package Specification; ComponentLink3URL: http:/www.analog.com/static/imported-files/packages/PKG_PDF/PDIP(N)/N_8.pdf
footprint ADI-N-8 (DIP, 8-Leads, Body 9.59x6.6mm, Pitch 2.54mm)
pins: 1 NULL (in), 2 -IN (in), 3 +IN (in), 4 -V (power), 5 NULL (in), 6 OUT (out), 7 +V (power), 8 NC

## OP42GS
designator U?
Single Channel Fast Slew Rate Operational Amplifier, 10 MHz BW, 50 V/us SR, Industrial, 8-pin SOIC (R-8), Tube; Generic Part Number: OP42; Manufacturer: Analog Devices; PartNumber: OP42GS; Amplifiers Per Package: 1; Input Bias Current: 130pA; Input Offset Voltage: 1.5mV; Iq/Amp: 6.5mA; Slew Rate: 50V/us; Small Signal Bandwidth: 10MHz; V Span Max: 40V; V Span Min: 16V; DatasheetVersion: Rev. A; PackageVersion: 060506-A; PackageReference: R-8; PackageDescription: 8-Pin Standard Small Outline Package, Body 3.9 x 4.9 mm, Pitch 1.27 mm; Supplier 1: Digi-Key; Supplier Part Number 1: OP42GS-ND; Packing: Tube; Mounting Technology: Surface Mount; Code_JEDEC: MS-012-AA; ComponentLink1Description: Manufacturer URL; ComponentLink1URL: http://www.analog.com/en/index.html; ComponentLink2Description: Datasheet; ComponentLink2URL: http://www.analog.com/static/imported-files/data_sheets/OP42.pdf; ComponentLink3Description: Package Specification; ComponentLink3URL: http://www.analog.com/static/imported-files/packages/PKG_PDF/SOIC_Narrow%20(R)/R_8.pdf
footprint ADI-R-8_N (SOIC, 8-Leads, Body 4.9x3.9mm, Pitch 1.27mm, IPC Medium Density)
footprint ADI-R-8_L (SOIC, 8-Leads, Body 4.9x3.9mm, Pitch 1.27mm, IPC High Density)
footprint ADI-R-8_M (SOIC, 8-Leads, Body 4.9x3.9mm, Pitch 1.27mm, IPC Low Density)
pins: 1 NULL (in), 2 -IN (in), 3 +IN (in), 4 -V (power), 5 NULL (in), 6 OUT (out), 7 +V (power), 8 NC

## OP42GS-REEL
designator U?
Single Channel Fast Slew Rate Operational Amplifier, 10 MHz BW, 50 V/us SR, Industrial, 8-pin SOIC (R-8), Reel; Generic Part Number: OP42; Manufacturer: Analog Devices; PartNumber: OP42GS-REEL; Amplifiers Per Package: 1; Input Bias Current: 130pA; Input Offset Voltage: 1.5mV; Iq/Amp: 6.5mA; Slew Rate: 50V/us; Small Signal Bandwidth: 10MHz; V Span Max: 40V; V Span Min: 16V; DatasheetVersion: Rev. A; PackageVersion: 060506-A; PackageReference: R-8; PackageDescription: 8-Pin Standard Small Outline Package, Body 3.9 x 4.9 mm, Pitch 1.27 mm; Supplier 1: Digi-Key; Supplier Part Number 1: OP42GS-REEL-ND; Supplier 2: Newark; Supplier Part Number 2: 13B4647; Packing: Reel; Mounting Technology: Surface Mount; Code_JEDEC: MS-012-AA; ComponentLink1Description: Manufacturer URL; ComponentLink1URL: http://www.analog.com/en/index.html; ComponentLink2Description: Datasheet; ComponentLink2URL: http://www.analog.com/static/imported-files/data_sheets/OP42.pdf; ComponentLink3Description: Package Specification; ComponentLink3URL: http://www.analog.com/static/imported-files/packages/PKG_PDF/SOIC_Narrow%20(R)/R_8.pdf
footprint ADI-R-8_N (SOIC, 8-Leads, Body 4.9x3.9mm, Pitch 1.27mm, IPC Medium Density)
footprint ADI-R-8_L (SOIC, 8-Leads, Body 4.9x3.9mm, Pitch 1.27mm, IPC High Density)
footprint ADI-R-8_M (SOIC, 8-Leads, Body 4.9x3.9mm, Pitch 1.27mm, IPC Low Density)
pins: 1 NULL (in), 2 -IN (in), 3 +IN (in), 4 -V (power), 5 NULL (in), 6 OUT (out), 7 +V (power), 8 NC

## OP42GS-REEL7
designator U?
Single Channel Fast Slew Rate Operational Amplifier, 10 MHz BW, 50 V/us SR, Industrial, 8-pin SOIC (R-8), Reel; Generic Part Number: OP42; Manufacturer: Analog Devices; PartNumber: OP42GS-REEL7; Amplifiers Per Package: 1; Input Bias Current: 130pA; Input Offset Voltage: 1.5mV; Iq/Amp: 6.5mA; Slew Rate: 50V/us; Small Signal Bandwidth: 10MHz; V Span Max: 40V; V Span Min: 16V; DatasheetVersion: Rev. A; PackageVersion: 060506-A; PackageReference: R-8; PackageDescription: 8-Pin Standard Small Outline Package, Body 3.9 x 4.9 mm, Pitch 1.27 mm; Supplier 1: Digi-Key; Supplier Part Number 1: OP42GS-REEL7-ND; Supplier 2: Newark; Supplier Part Number 2: 13B4648; Packing: Reel; Mounting Technology: Surface Mount; Code_JEDEC: MS-012-AA; ComponentLink1Description: Manufacturer URL; ComponentLink1URL: http://www.analog.com/en/index.html; ComponentLink2Description: Datasheet; ComponentLink2URL: http://www.analog.com/static/imported-files/data_sheets/OP42.pdf; ComponentLink3Description: Package Specification; ComponentLink3URL: http://www.analog.com/static/imported-files/packages/PKG_PDF/SOIC_Narrow%20(R)/R_8.pdf
footprint ADI-R-8_N (SOIC, 8-Leads, Body 4.9x3.9mm, Pitch 1.27mm, IPC Medium Density)
footprint ADI-R-8_L (SOIC, 8-Leads, Body 4.9x3.9mm, Pitch 1.27mm, IPC High Density)
footprint ADI-R-8_M (SOIC, 8-Leads, Body 4.9x3.9mm, Pitch 1.27mm, IPC Low Density)
pins: 1 NULL (in), 2 -IN (in), 3 +IN (in), 4 -V (power), 5 NULL (in), 6 OUT (out), 7 +V (power), 8 NC

## OP42GSZ
designator U?
Single Channel Fast Slew Rate Operational Amplifier, 10 MHz BW, 50 V/us SR, Industrial, 8-pin SOIC (R-8), Tube; Generic Part Number: OP42; Manufacturer: Analog Devices; PartNumber: OP42GSZ; Amplifiers Per Package: 1; Input Bias Current: 130pA; Input Offset Voltage: 1.5mV; Iq/Amp: 6.5mA; Slew Rate: 50V/us; Small Signal Bandwidth: 10MHz; V Span Max: 40V; V Span Min: 16V; DatasheetVersion: Rev. A; PackageVersion: 060506-A; PackageReference: R-8; PackageDescription: 8-Pin Standard Small Outline Package, Body 3.9 x 4.9 mm, Pitch 1.27 mm; Supplier 1: Digi-Key; Supplier Part Number 1: OP42GSZ-ND; Supplier 2: Farnell; Supplier Part Number 2: 1651294; Supplier 3: Newark; Supplier Part Number 3: 19M8986; Packing: Tube; Mounting Technology: Surface Mount; Code_JEDEC: MS-012-AA; ComponentLink1Description: Manufacturer URL; ComponentLink1URL: http://www.analog.com/en/index.html; ComponentLink2Description: Datasheet; ComponentLink2URL: http://www.analog.com/static/imported-files/data_sheets/OP42.pdf; ComponentLink3Description: Package Specification; ComponentLink3URL: http://www.analog.com/static/imported-files/packages/PKG_PDF/SOIC_Narrow%20(R)/R_8.pdf
footprint ADI-R-8_N (SOIC, 8-Leads, Body 4.9x3.9mm, Pitch 1.27mm, IPC Medium Density)
footprint ADI-R-8_L (SOIC, 8-Leads, Body 4.9x3.9mm, Pitch 1.27mm, IPC High Density)
footprint ADI-R-8_M (SOIC, 8-Leads, Body 4.9x3.9mm, Pitch 1.27mm, IPC Low Density)
pins: 1 NULL (in), 2 -IN (in), 3 +IN (in), 4 -V (power), 5 NULL (in), 6 OUT (out), 7 +V (power), 8 NC

## OP42GSZ-R7
designator U?
Single Channel Fast Slew Rate Operational Amplifier, 10 MHz BW, 50 V/us SR, 8-pin SOIC (R-8), Reel; Generic Part Number: OP42; Manufacturer: Analog Devices; PartNumber: OP42GSZ-R7; Amplifiers Per Package: 1; Input Bias Current: 130pA; Input Offset Voltage: 1.5mV; Iq/Amp: 6.5mA; Slew Rate: 50V/us; Small Signal Bandwidth: 10MHz; V Span Max: 40V; V Span Min: 16V; DatasheetVersion: Rev. A; PackageVersion: 060506-A; PackageReference: R-8; PackageDescription: 8-Pin Standard Small Outline Package, Body 3.9 x 4.9 mm, Pitch 1.27 mm; Supplier 1: Digi-Key; Supplier Part Number 1: OP42GSZ-R7-ND; Packing: Reel; Mounting Technology: Surface Mount; Code_JEDEC: MS-012-AA; ComponentLink1Description: Manufacturer URL; ComponentLink1URL: http://www.analog.com/en/index.html; ComponentLink2Description: Datasheet; ComponentLink2URL: http://www.analog.com/static/imported-files/data_sheets/OP42.pdf; ComponentLink3Description: Package Specification; ComponentLink3URL: http://www.analog.com/static/imported-files/packages/PKG_PDF/SOIC_Narrow%20(R)/R_8.pdf
footprint ADI-R-8_N (SOIC, 8-Leads, Body 4.9x3.9mm, Pitch 1.27mm, IPC Medium Density)
footprint ADI-R-8_L (SOIC, 8-Leads, Body 4.9x3.9mm, Pitch 1.27mm, IPC High Density)
footprint ADI-R-8_M (SOIC, 8-Leads, Body 4.9x3.9mm, Pitch 1.27mm, IPC Low Density)
pins: 1 NULL (in), 2 -IN (in), 3 +IN (in), 4 -V (power), 5 NULL (in), 6 OUT (out), 7 +V (power), 8 NC

## OP42GSZ-RL
designator U?
Single Channel Fast Slew Rate Operational Amplifier, 10 MHz BW, 50 V/us SR, Industrial, 8-pin SOIC (R-8), Reel; Generic Part Number: OP42; Manufacturer: Analog Devices; PartNumber: OP42GSZ-RL; Amplifiers Per Package: 1; Input Bias Current: 130pA; Input Offset Voltage: 1.5mV; Iq/Amp: 6.5mA; Slew Rate: 50V/us; Small Signal Bandwidth: 10MHz; V Span Max: 40V; V Span Min: 16V; DatasheetVersion: Rev. A; PackageVersion: 060506-A; PackageReference: R-8; PackageDescription: 8-Pin Standard Small Outline Package, Body 3.9 x 4.9 mm, Pitch 1.27 mm; Supplier 1: Digi-Key; Supplier Part Number 1: OP42GSZ-RL-ND; Packing: Reel; Mounting Technology: Surface Mount; Code_JEDEC: MS-012-AA; ComponentLink1Description: Manufacturer URL; ComponentLink1URL: http://www.analog.com/en/index.html; ComponentLink2Description: Datasheet; ComponentLink2URL: http://www.analog.com/static/imported-files/data_sheets/OP42.pdf; ComponentLink3Description: Package Specification; ComponentLink3URL: http://www.analog.com/static/imported-files/packages/PKG_PDF/SOIC_Narrow%20(R)/R_8.pdf
footprint ADI-R-8_N (SOIC, 8-Leads, Body 4.9x3.9mm, Pitch 1.27mm, IPC Medium Density)
footprint ADI-R-8_L (SOIC, 8-Leads, Body 4.9x3.9mm, Pitch 1.27mm, IPC High Density)
footprint ADI-R-8_M (SOIC, 8-Leads, Body 4.9x3.9mm, Pitch 1.27mm, IPC Low Density)
pins: 1 NULL (in), 2 -IN (in), 3 +IN (in), 4 -V (power), 5 NULL (in), 6 OUT (out), 7 +V (power), 8 NC

## OP77EZ
designator U?
Single Channel Ultra High Gain Operational Amplifier, 600 KHz BW, 300 mV/us SR, Industrial, 8-pin DIP (Q-8), Tube; Generic Part Number: OP77; Manufacturer: Analog Devices; PartNumber: OP77EZ; Amplifiers Per Package: 1; Input Bias Current: 1.2nA; Input Offset Voltage: 10uV; Iq/Amp: 2mA; Small Signal Bandwidth: 600KHz; V Span Max: 44V; V Span Min: 6V; DatasheetVersion: Rev. E; PackageReference: Q-8; PackageDescription: 8-Pin Ceramic Dual In-Line Package, Row spacing 7.62 mm, Pitch 2.54 mm; Supplier 1: Digi-Key; Supplier Part Number 1: OP77EZ-ND; Supplier 2: Newark; Supplier Part Number 2: 05F8744; Packing: Tube; Slew Rate: 300mV/us; Mounting Technology: Through Hole; ComponentLink1Description: Manufacturer URL; ComponentLink1URL: http://www.analog.com/en/index.html; ComponentLink2Description: Datasheet; ComponentLink2URL: http://www.analog.com/static/imported-files/data_sheets/OP77.pdf; ComponentLink3Description: Package Specification; ComponentLink3URL: http://www.analog.com/static/imported-files/packages/3925655241313314758Q_8.pdf
footprint ADI-Q-8 (DIP, 8-Leads, Body 10.29x6.73mm, Pitch 2.54mm)
pins: 1 VOS TRIM (in), 2 -IN (in), 3 +IN (in), 4 V- (power), 5 NC, 6 OUT (out), 7 V+ (power), 8 VOS TRIM (in)

## OP77FZ
designator U?
Single Channel Ultra High Gain Operational Amplifier, 600 KHz BW, 300 mV/us SR, Industrial, 8-pin DIP (Q-8), Tube; Generic Part Number: OP77; Manufacturer: Analog Devices; PartNumber: OP77FZ; Amplifiers Per Package: 1; Input Bias Current: 1.2nA; Input Offset Voltage: 20uV; Iq/Amp: 2mA; Small Signal Bandwidth: 600KHz; V Span Max: 44V; V Span Min: 6V; DatasheetVersion: Rev. E; PackageReference: Q-8; PackageDescription: 8-Pin Ceramic Dual In-Line Package, Row spacing 7.62 mm, Pitch 2.54 mm; Supplier 1: Digi-Key; Supplier Part Number 1: OP77FZ-ND; Supplier 2: Newark; Supplier Part Number 2: 05F8747; Packing: Tube; Slew Rate: 300mV/us; Mounting Technology: Through Hole; ComponentLink1Description: Manufacturer URL; ComponentLink1URL: http://www.analog.com/en/index.html; ComponentLink2Description: Datasheet; ComponentLink2URL: http://www.analog.com/static/imported-files/data_sheets/OP77.pdf; ComponentLink3Description: Package Specification; ComponentLink3URL: http://www.analog.com/static/imported-files/packages/3925655241313314758Q_8.pdf
footprint ADI-Q-8 (DIP, 8-Leads, Body 10.29x6.73mm, Pitch 2.54mm)
pins: 1 VOS TRIM (in), 2 -IN (in), 3 +IN (in), 4 V- (power), 5 NC, 6 OUT (out), 7 V+ (power), 8 VOS TRIM (in)

## OP97EP
designator U?
Single Channel Very Low Bias Current Operational Amplifier, 900 KHz BW, 200 mV/us SR, Industrial, 8-pin DIP (N-8), Tube; Generic Part Number: OP97; Manufacturer: Analog Devices; PartNumber: OP97EP; Amplifiers Per Package: 1; Input Bias Current: 30pA; Input Offset Voltage: 10uV; Iq/Amp: 600uA; Small Signal Bandwidth: 900KHz; V Span Max: 40V; V Span Min: 4V; DatasheetVersion: Rev. G; PackageVersion: 070606-A; PackageReference: N-8; PackageDescription: 8-Pin Plastic Dual In-Line Package, Row spacing 7.62 mm, Pitch 2.54 mm; Supplier 1: Digi-Key; Supplier Part Number 1: OP97EP-ND; Packing: Tube; Slew Rate: 200mV/us; Mounting Technology: Through Hole; Code_JEDEC: MS-001; ComponentLink1Description: Manufacturer URL; ComponentLink1URL: http://www.analog.com/en/index.html; ComponentLink2Description: Datasheet; ComponentLink2URL: http://www.analog.com/static/imported-files/data_sheets/OP97.pdf; ComponentLink3Description: Package Specification; ComponentLink3URL: http:/www.analog.com/static/imported-files/packages/PKG_PDF/PDIP(N)/N_8.pdf
footprint ADI-N-8 (DIP, 8-Leads, Body 9.59x6.6mm, Pitch 2.54mm)
pins: 1 NULL (in), 2 -IN (in), 3 +IN (in), 4 -V (power), 5 OVER COMP, 6 OUT (out), 7 +V (power), 8 NULL (in)

## OP97EPZ
designator U?
Single Channel Very Low Bias Current Operational Amplifier, 900 KHz BW, 200 mV/us SR, Industrial, 8-pin DIP (N-8), Tube; Generic Part Number: OP97; Manufacturer: Analog Devices; PartNumber: OP97EPZ; Amplifiers Per Package: 1; Input Bias Current: 30pA; Input Offset Voltage: 10uV; Iq/Amp: 600uA; Small Signal Bandwidth: 900KHz; V Span Max: 40V; V Span Min: 4V; DatasheetVersion: Rev. G; PackageVersion: 070606-A; PackageReference: N-8; PackageDescription: 8-Pin Plastic Dual In-Line Package, Row spacing 7.62 mm, Pitch 2.54 mm; Supplier 1: Digi-Key; Supplier Part Number 1: OP97EPZ-ND; Supplier 2: Farnell; Supplier Part Number 2: 1438697; Supplier 3: Newark; Supplier Part Number 3: 59K8973; Packing: Tube; Slew Rate: 200mV/us; Mounting Technology: Through Hole; Code_JEDEC: MS-001; ComponentLink1Description: Manufacturer URL; ComponentLink1URL: http://www.analog.com/en/index.html; ComponentLink2Description: Datasheet; ComponentLink2URL: http://www.analog.com/static/imported-files/data_sheets/OP97.pdf; ComponentLink3Description: Package Specification; ComponentLink3URL: http:/www.analog.com/static/imported-files/packages/PKG_PDF/PDIP(N)/N_8.pdf
footprint ADI-N-8 (DIP, 8-Leads, Body 9.59x6.6mm, Pitch 2.54mm)
pins: 1 NULL (in), 2 -IN (in), 3 +IN (in), 4 -V (power), 5 OVER COMP, 6 OUT (out), 7 +V (power), 8 NULL (in)

## OP97FP
designator U?
Single Channel Very Low Bias Current Operational Amplifier, 900 KHz BW, 200 mV/us SR, Industrial, 8-pin DIP (N-8), Tube; Generic Part Number: OP97; Manufacturer: Analog Devices; PartNumber: OP97FP; Amplifiers Per Package: 1; Input Bias Current: 30pA; Input Offset Voltage: 30uV; Iq/Amp: 600uA; Small Signal Bandwidth: 900KHz; V Span Max: 40V; V Span Min: 4V; DatasheetVersion: Rev. G; PackageVersion: 070606-A; PackageReference: N-8; PackageDescription: 8-Pin Plastic Dual In-Line Package, Row spacing 7.62 mm, Pitch 2.54 mm; Supplier 1: Digi-Key; Supplier Part Number 1: OP97FP-ND; Packing: Tube; Slew Rate: 200mV/us; Mounting Technology: Through Hole; Code_JEDEC: MS-001; ComponentLink1Description: Manufacturer URL; ComponentLink1URL: http://www.analog.com/en/index.html; ComponentLink2Description: Datasheet; ComponentLink2URL: http://www.analog.com/static/imported-files/data_sheets/OP97.pdf; ComponentLink3Description: Package Specification; ComponentLink3URL: http:/www.analog.com/static/imported-files/packages/PKG_PDF/PDIP(N)/N_8.pdf
footprint ADI-N-8 (DIP, 8-Leads, Body 9.59x6.6mm, Pitch 2.54mm)
pins: 1 NULL (in), 2 -IN (in), 3 +IN (in), 4 -V (power), 5 OVER COMP, 6 OUT (out), 7 +V (power), 8 NULL (in)

## OP97FPZ
designator U?
Single Channel Very Low Bias Current Operational Amplifier, 900 KHz BW, 200 mV/us SR, Industrial, 8-pin DIP (N-8), Tube; Generic Part Number: OP97; Manufacturer: Analog Devices; PartNumber: OP97FPZ; Amplifiers Per Package: 1; Input Bias Current: 30pA; Input Offset Voltage: 30uV; Iq/Amp: 600uA; Small Signal Bandwidth: 900KHz; V Span Max: 40V; V Span Min: 4V; DatasheetVersion: Rev. G; PackageVersion: 070606-A; PackageReference: N-8; PackageDescription: 8-Pin Plastic Dual In-Line Package, Row spacing 7.62 mm, Pitch 2.54 mm; Supplier 1: Digi-Key; Supplier Part Number 1: OP97FPZ-ND; Supplier 2: Farnell; Supplier Part Number 2: 9604677; Supplier 3: Farnell; Supplier Part Number 3: 1523889; Supplier 4: Newark; Supplier Part Number 4: 59K8974; Packing: Tube; Slew Rate: 200mV/us; Mounting Technology: Through Hole; Code_JEDEC: MS-001; ComponentLink1Description: Manufacturer URL; ComponentLink1URL: http://www.analog.com/en/index.html; ComponentLink2Description: Datasheet; ComponentLink2URL: http://www.analog.com/static/imported-files/data_sheets/OP97.pdf; ComponentLink3Description: Package Specification; ComponentLink3URL: http:/www.analog.com/static/imported-files/packages/PKG_PDF/PDIP(N)/N_8.pdf
footprint ADI-N-8 (DIP, 8-Leads, Body 9.59x6.6mm, Pitch 2.54mm)
pins: 1 NULL (in), 2 -IN (in), 3 +IN (in), 4 -V (power), 5 OVER COMP, 6 OUT (out), 7 +V (power), 8 NULL (in)

## OP97FS
designator U?
Single Channel Very Low Bias Current Operational Amplifier, 900 KHz BW, 200 mV/us SR, Industrial, 8-pin SOIC (R-8), Tube; Generic Part Number: OP97; Manufacturer: Analog Devices; PartNumber: OP97FS; Amplifiers Per Package: 1; Input Bias Current: 30pA; Input Offset Voltage: 30uV; Iq/Amp: 600uA; Small Signal Bandwidth: 900KHz; V Span Max: 40V; V Span Min: 4V; DatasheetVersion: Rev. G; PackageVersion: 060506-A; PackageReference: R-8; PackageDescription: 8-Pin Standard Small Outline Package, Body 3.9 x 4.9 mm, Pitch 1.27 mm; Supplier 1: Digi-Key; Supplier Part Number 1: OP97FS-ND; Packing: Tube; Slew Rate: 200mV/us; Mounting Technology: Surface Mount; Code_JEDEC: MS-012-AA; ComponentLink1Description: Manufacturer URL; ComponentLink1URL: http://www.analog.com/en/index.html; ComponentLink2Description: Datasheet; ComponentLink2URL: http://www.analog.com/static/imported-files/data_sheets/OP97.pdf; ComponentLink3Description: Package Specification; ComponentLink3URL: http://www.analog.com/static/imported-files/packages/PKG_PDF/SOIC_Narrow%20(R)/R_8.pdf
footprint ADI-R-8_N (SOIC, 8-Leads, Body 4.9x3.9mm, Pitch 1.27mm, IPC Medium Density)
footprint ADI-R-8_L (SOIC, 8-Leads, Body 4.9x3.9mm, Pitch 1.27mm, IPC High Density)
footprint ADI-R-8_M (SOIC, 8-Leads, Body 4.9x3.9mm, Pitch 1.27mm, IPC Low Density)
pins: 1 NULL (in), 2 -IN (in), 3 +IN (in), 4 -V (power), 5 OVER COMP, 6 OUT (out), 7 +V (power), 8 NULL (in)